# EAGLE library part ACSIPDEV (library ACSIP)
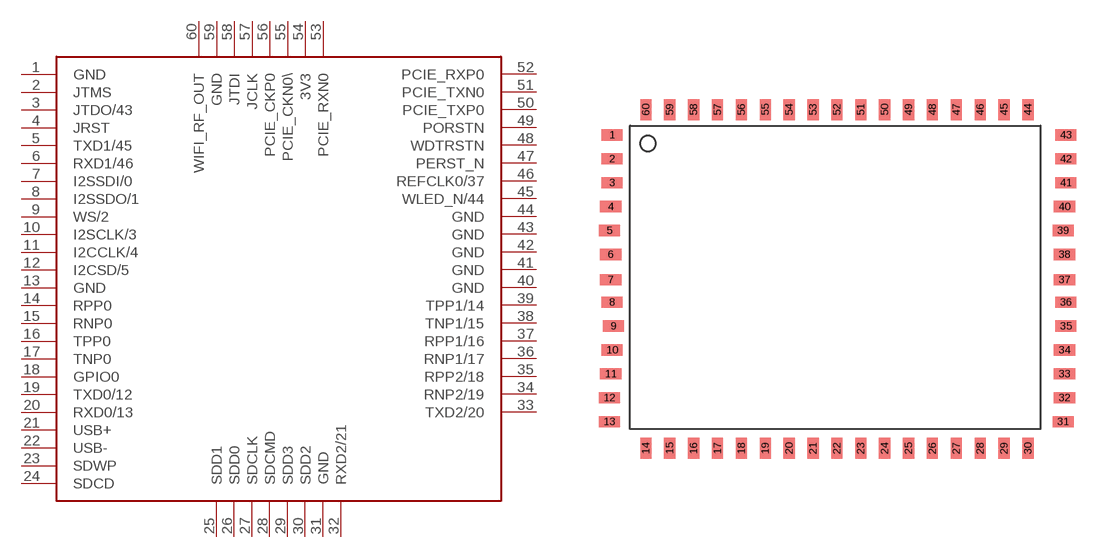
[diagram p0: symbol with the pads of ACSIP60; footprint ACSIP60]

Designator prefix -

## ACSIPDEV  [ACSIP60]
1  GND
2  JTMS
3  JTDO/43
4  JRST
5  TXD1/45
6  RXD1/46
7  I2SSDI/0
8  I2SSDO/1
9  WS/2
10  I2SCLK/3
11  I2CCLK/4
12  I2CSD/5
13  GND
14  RPP0
15  RNP0
16  TPP0
17  TNP0
18  GPIO0
19  TXD0/12
20  RXD0/13
21  USB+
22  USB-
23  SDWP
24  SDCD
25  SDD1
26  SDD0
27  SDCLK
28  SDCMD
29  SDD3
30  SDD2
31  GND
32  RXD2/21
33  TXD2/20
34  RNP2/19
35  RPP2/18
36  RNP1/17
37  RPP1/16
38  TNP1/15
39  TPP1/14
40  GND
41  GND
42  GND
43  GND
44  GND
45  WLED_N/44
46  REFCLK0/37
47  PERST_N
48  WDTRSTN
49  PORSTN
50  PCIE_TXP0
51  PCIE_TXN0
52  PCIE_RXP0
53  PCIE_RXN0
54  3V3
55  PCIE_CKN0\
56  PCIE_CKP0
57  JCLK
58  JTDI
59  GND
60  WIFI_RF_OUT

## Footprint ACSIP60 (pad centres in mm)
smd 1.5 x 0.8: 1 0,22.2; 2 0,20.5; 3 0,18.8; 4 -0.1,17.1; 5 -0.2,15.4; 6 -0.1,13.7; 7 -0.1,11.9; 8 0,10.3; 9 0.1,8.6; 10 0,6.9; 11 -0.1,5.2; 12 -0.2,3.5; 13 -0.2,1.8; 31 32.1,1.8; 32 32.2,3.5; 33 32.2,5.2; 34 32.2,6.9; 35 32.3,8.6; 36 32.3,10.3; 37 32.2,11.9; 38 32.2,13.7; 39 32.1,15.4; 40 32.2,17.1; 41 32.3,18.8; 42 32.3,20.5; 43 32.3,22.2
smd 0.8 x 1.5: 14 2.4,-0.1; 15 4.1,-0.1; 16 5.8,-0.1; 17 7.5,-0.1; 18 9.2,-0.1; 19 10.9,-0.1; 20 12.6,-0.1; 21 14.3,-0.1; 22 16,-0.1; 23 17.7,-0.1; 24 19.4,-0.1; 25 21.1,-0.1; 26 22.8,-0.1; 27 24.5,-0.1; 28 26.2,-0.1; 29 27.9,-0.1; 30 29.6,-0.1; 44 29.6,24; 45 27.9,24; 46 26.2,24; 47 24.5,24; 48 22.8,24; 49 21.1,24; 50 19.4,24; 51 17.7,24; 52 16,24; 53 14.3,24; 54 12.6,24; 55 10.9,24; 56 9.2,24; 57 7.5,24; 58 5.8,24; 59 4.1,24; 60 2.4,24